# Altium schematic symbol library CapSense.SchLib: 4 symbols
Pins are listed as number, name and electrical type; pins without a type are passive.

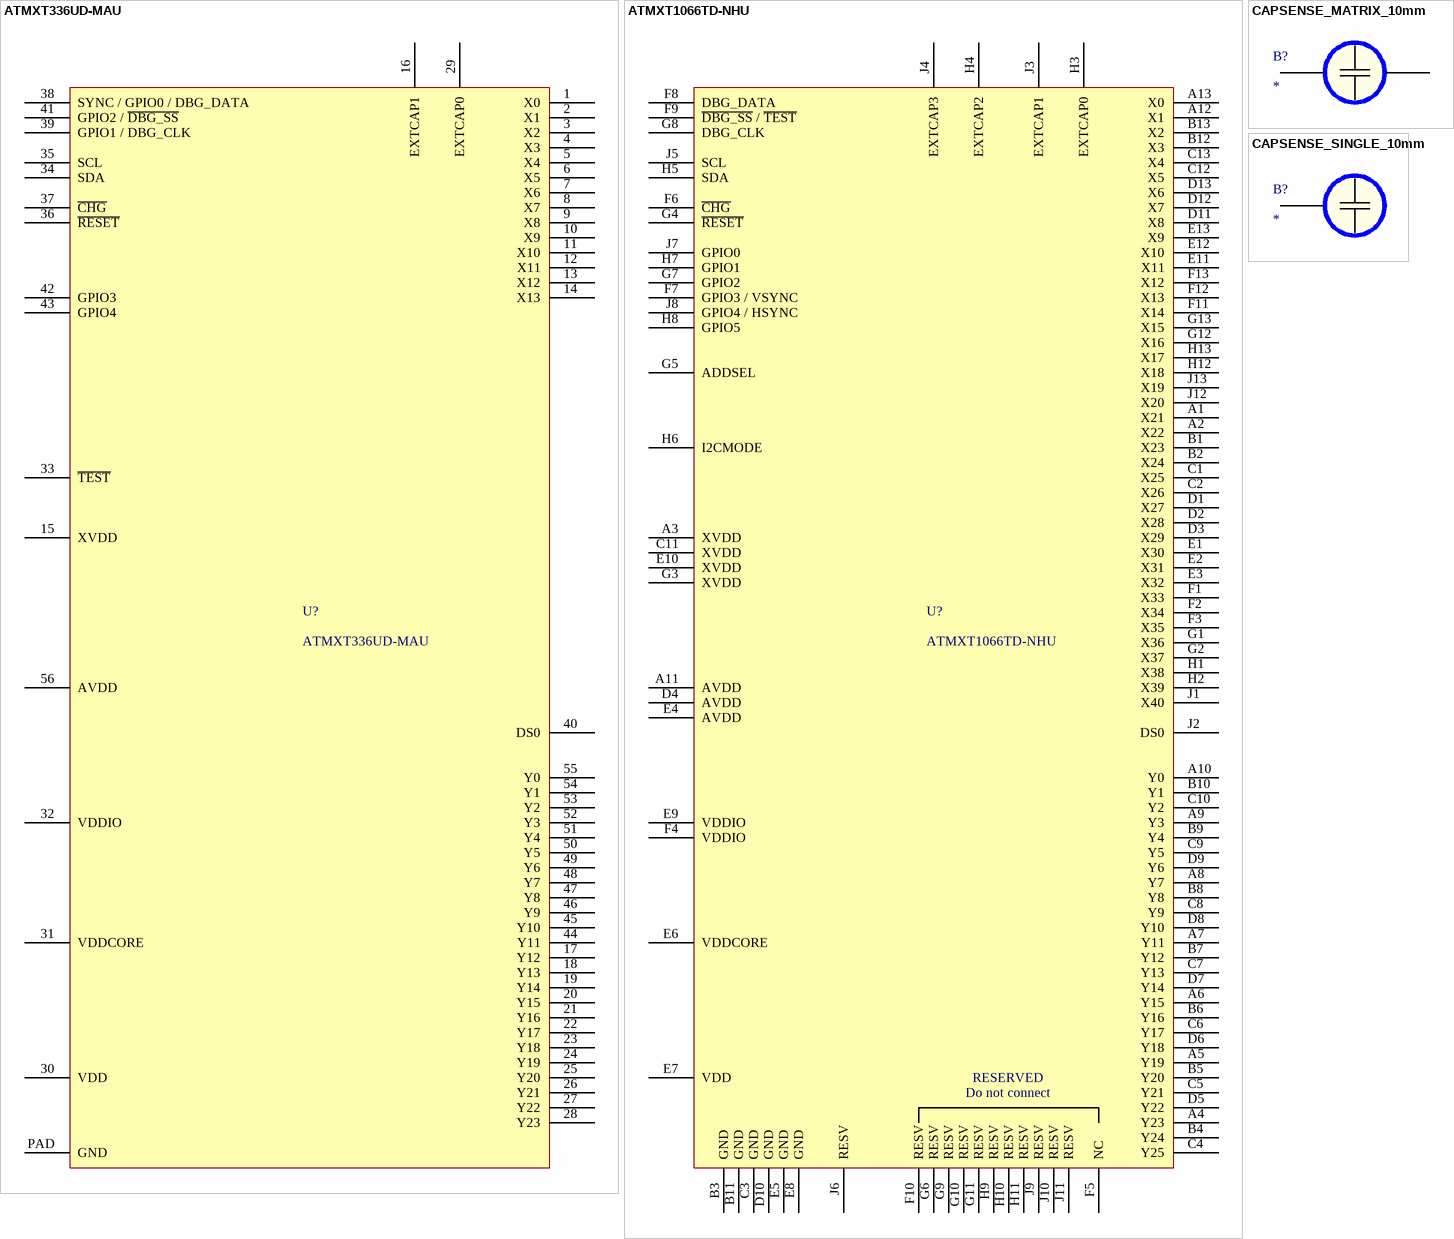
[diagram p0: symbols ATMXT336UD-MAU to CAPSENSE_SINGLE_10mm]

## ATMXT336UD-MAU
designator U?
maXTouch 1066-node Touchscreen Controller
footprint ATMXT336UD-MAU - QFN35P600X600X40_HS-57M (QFN, 56-Leads, Body 6.00x6.00mm, Pitch 0.35mm, Thermal Pad 4.50x4.50mm, IPC Low Density)
pins: 1 X0, 2 X1, 3 X2, 4 X3, 5 X4, 6 X5, 7 X6, 8 X7, 9 X8, 10 X9, 11 X10, 12 X11, 13 X12, 14 X13, 15 XVDD, 16 EXTCAP1, 17 Y12, 18 Y13, 19 Y14, 20 Y15, 21 Y16, 22 Y17, 23 Y18, 24 Y19, 25 Y20, 26 Y21, 27 Y22, 28 Y23, 29 EXTCAP0, 30 VDD, 31 VDDCORE, 32 VDDIO, 33 ~{TEST}, 34 SDA, 35 SCL, 36 ~{RESET}, 37 ~{CHG}, 38 SYNC / GPIO0 / DBG_DATA, 39 GPIO1 / DBG_CLK, 40 DS0, 41 GPIO2 / ~{DBG_SS}, 42 GPIO3, 43 GPIO4, 44 Y11, 45 Y10, 46 Y9, 47 Y8, 48 Y7, 49 Y6, 50 Y5, 51 Y4, 52 Y3, 53 Y2, 54 Y1, 55 Y0, 56 AVDD, PAD GND

## ATMXT1066TD-NHU
designator U?
maXTouch 1066-node Touchscreen Controller
footprint ATMXT1066TD-NHU - BGA117C65P13X9_950X700X65 (BGA, 117-Leads, Body 9.50x7.00mmx0.65mm, Pitch 0.65mm)
pins: A1 X21, A2 X22, A3 XVDD, A4 Y23, A5 Y19, A6 Y15, A7 Y11, A8 Y7, A9 Y3, A10 Y0, A11 AVDD, A12 X1, A13 X0, B1 X23, B2 X24, B3 GND, B4 Y24, B5 Y20, B6 Y16, B7 Y12, B8 Y8, B9 Y4, B10 Y1, B11 GND, B12 X3, B13 X2, C1 X25, C2 X26, C3 GND, C4 Y25, C5 Y21, C6 Y17, C7 Y13, C8 Y9, C9 Y5, C10 Y2, C11 XVDD, C12 X5, C13 X4, D1 X27, D2 X28, D3 X29, D4 AVDD, D5 Y22, D6 Y18, D7 Y14, D8 Y10, D9 Y6, D10 GND, D11 X8, D12 X7, D13 X6, E1 X30, E2 X31, E3 X32, E4 AVDD, E5 GND, E6 VDDCORE, E7 VDD, E8 GND, E9 VDDIO, E10 XVDD, E11 X11, E12 X10, E13 X9, F1 X33, F2 X34, F3 X35, F4 VDDIO, F5 NC, F6 ~{CHG}, F7 GPIO3 / VSYNC, F8 DBG_DATA, F9 ~{DBG_SS} / ~{TEST}, F10 RESV, F11 X14, F12 X13, F13 X12, G1 X36, G2 X37, G3 XVDD, G4 ~{RESET}, G5 ADDSEL, G6 RESV, G7 GPIO2, G8 DBG_CLK, G9 RESV, G10 RESV, G11 RESV, G12 X16, G13 X15, H1 X38, H2 X39, H3 EXTCAP0, H4 EXTCAP2, H5 SDA, H6 I2CMODE, H7 GPIO1, H8 GPIO5, H9 RESV, H10 RESV, H11 RESV, H12 X18, H13 X17, J1 X40, J2 DS0, J3 EXTCAP1, J4 EXTCAP3, J5 SCL, J6 RESV, J7 GPIO0, J8 GPIO4 / HSYNC, J9 RESV, J10 RESV, J11 RESV, J12 X20, J13 X19
text: RESERVED; Do not connect

## CAPSENSE_MATRIX_10mm
designator B?
Cap Sense Matrix Button 10mm diameter
footprint CAPSENSE-Matrix-10mm
pins: 0, 1

## CAPSENSE_SINGLE_10mm
designator B?
Cap Sense Single Button 10mm diameter
footprint CAPSENSE-Single-10mm
pins: 0